# Altium footprint library 8A8K64S4A12.PcbLib: 32 footprints (part 2 of 2)
Each footprint in its own frame and in the unit in brackets; x right, y up, seen from the top. Pads: shape width x height; smd on the part's side, far side on the other; paste and mask are expansions set on the pad; w line width, h text height; cw(c..) or ccw(c..) is an arc to the next point about the centre after c.
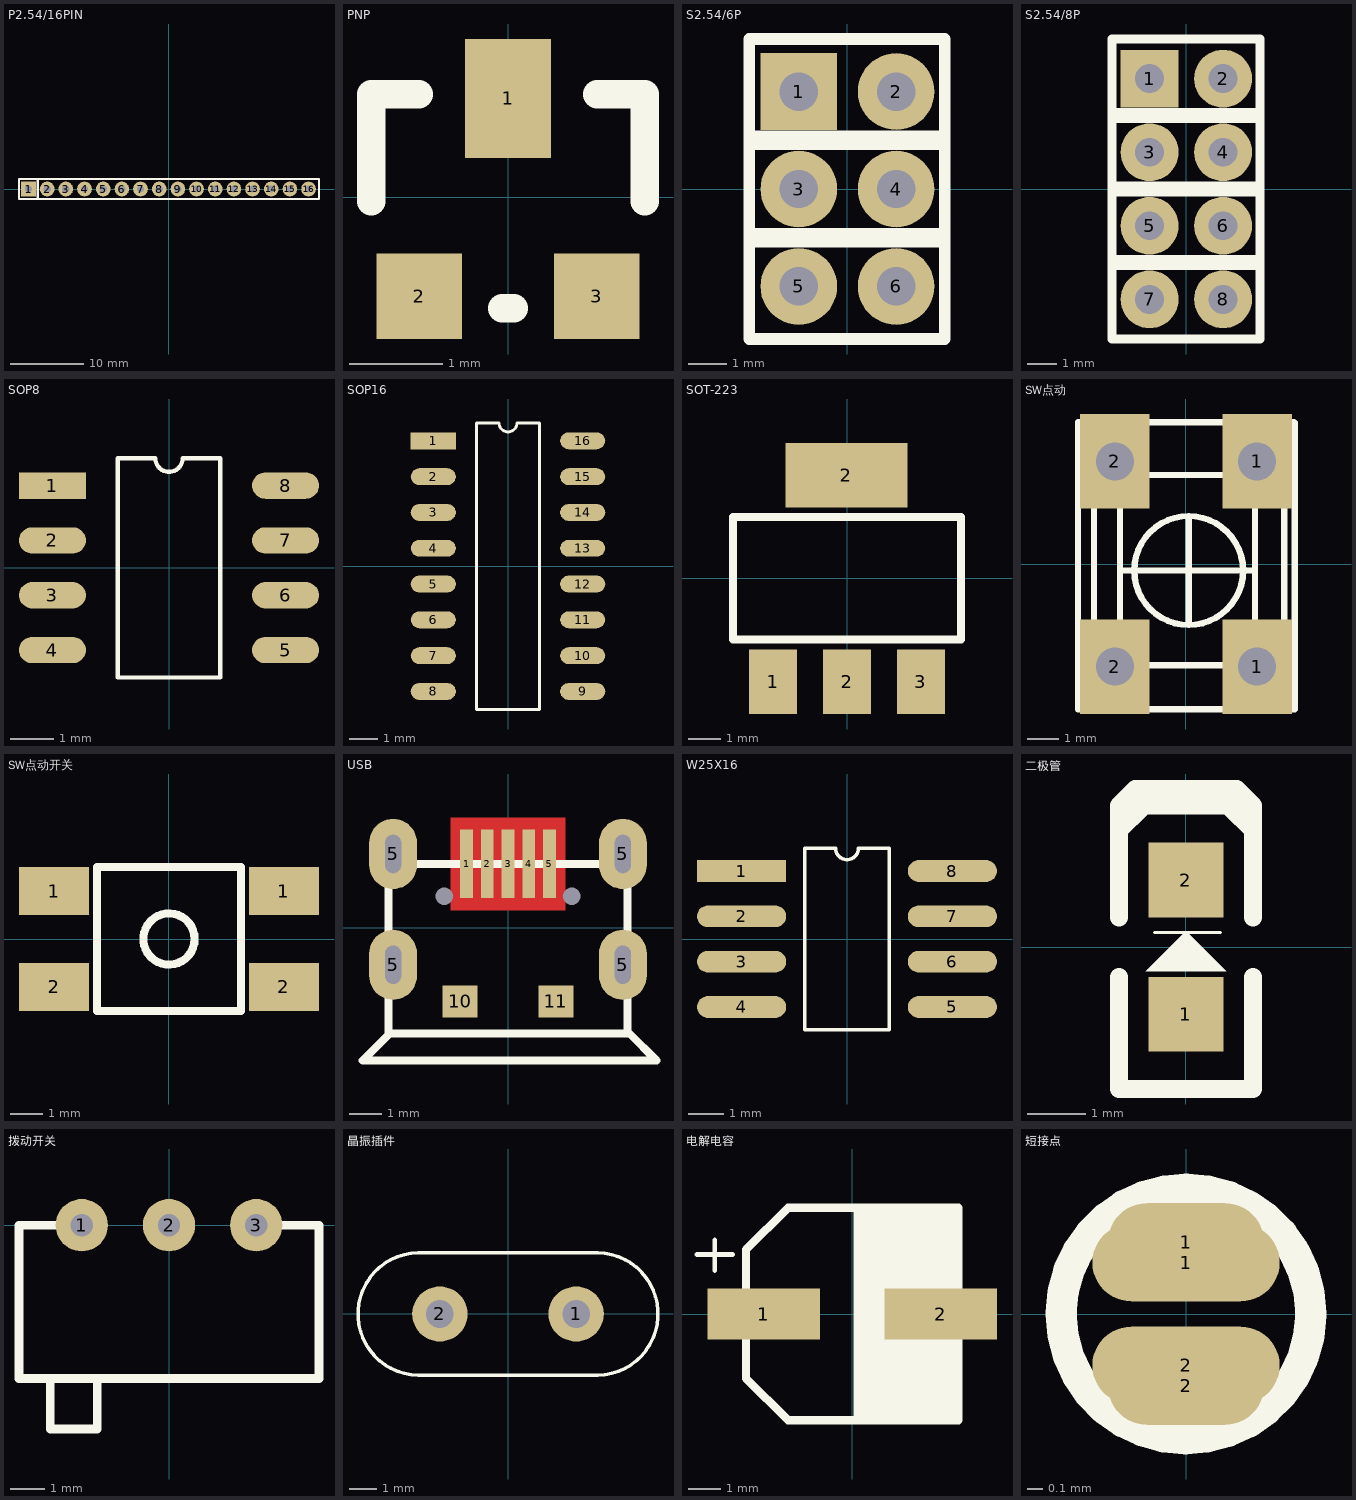
[diagram p1: the footprints below, top view; thin cyan lines are the x and y axes]

## P2.54/16PIN [mm]
pads (16):
  rect 2x2 hole 1: 1(-19.05,0)
  round 2 hole 1: 2(-16.51,0) 3(-13.97,0) 4(-11.43,0) 5(-8.89,0) 6(-6.35,0) 7(-3.81,0) 8(-1.27,0) 9(1.27,0) 10(3.81,0) 11(6.35,0) 12(8.89,0) 13(11.43,0) 14(13.97,0) 15(16.51,0) 16(19.05,0)
Top Overlay:
  lines w0.305: -17.78,-1.372 -17.78,1.372 ; -20.345,-1.372 -20.345,1.372 20.472,1.372 20.472,-1.372 -20.345,-1.372

## PNP [mil]
pads (3):
  rect 36x50 smd: 1(0,41.65)
  rect 36x36 smd: 2(-37.4,-41.65) 3(37.4,-41.65)
Top Overlay:
  lines w12: -57.5,-1.65 -57.5,43.35 -37.5,43.35 ; -2.5,-46.65 2.5,-46.65 ; 37.5,43.35 57.5,43.35 57.5,-1.65

## S2.54/6P [mm]
pads (6):
  rect 2x2 hole 1: 1(-1.27,2.54)
  round 2 hole 1: 2(1.27,2.54) 3(-1.27,0) 4(1.27,0) 5(-1.27,-2.54) 6(1.27,-2.54)
Top Overlay:
  lines w0.305: -2.565,-1.372 -2.565,1.372 ; -2.565,-1.372 2.54,-1.372 ; -2.565,-1.372 2.54,-1.372 ; -2.565,-1.372 -2.565,1.372 ; -2.565,1.372 2.54,1.372 ; -2.565,1.372 2.54,1.372 ; 2.54,-1.372 2.54,1.372 ; 2.54,-1.372 2.54,1.372 ; -2.565,-3.912 -2.565,-1.168 2.54,-1.168 2.54,-3.912 -2.565,-3.912 ; -2.565,1.168 2.54,1.168 2.54,3.912 -2.565,3.912 -2.565,1.168

## S2.54/8P [mm]
pads (8):
  rect 2x2 hole 1: 1(-1.27,3.81)
  round 2 hole 1: 2(1.27,3.81) 3(-1.27,1.27) 4(1.27,1.27) 5(-1.27,-1.27) 6(1.27,-1.27) 7(-1.27,-3.81) 8(1.27,-3.81)
Top Overlay:
  lines w0.305: -2.565,-5.182 2.54,-5.182 2.54,-2.438 -2.565,-2.438 -2.565,-5.182 ; -2.565,-2.642 2.54,-2.642 2.54,0.102 -2.565,0.102 -2.565,-2.642 ; -2.565,-0.102 -2.565,2.642 2.54,2.642 2.54,-0.102 -2.565,-0.102 ; -2.565,2.438 -2.565,5.182 2.54,5.182 2.54,2.438 -2.565,2.438

## SOP8 [mil]
pads (8):
  rect 61x24 smd: 1(-106.3,75)
  oval 61x24 smd: 2(-106.3,25) 3(-106.3,-25) 4(-106.3,-75) 5(106.3,-75) 6(106.3,-25) 7(106.3,25) 8(106.3,75)
Top Overlay:
  lines w4: -46.8,-100 46.8,-100 46.8,100 12.5,100 cw(c0,100) -12.5,100 -46.8,100 -46.8,-100

## SOP16 [mm]
pads (16):
  rect 1.6x0.6 smd: 1(-2.65,4.445)
  oval 1.6x0.6 smd: 2(-2.65,3.175) 3(-2.65,1.905) 4(-2.65,0.635) 5(-2.65,-0.635) 6(-2.65,-1.905) 7(-2.65,-3.175) 8(-2.65,-4.445) 9(2.65,-4.445) 10(2.65,-3.175) 11(2.65,-1.905) 12(2.65,-0.635) 13(2.65,0.635) 14(2.65,1.905) 15(2.65,3.175) 16(2.65,4.445)
Top Overlay:
  lines w0.1: -1.115,-5.08 1.115,-5.08 1.115,5.08 0.318,5.08 cw(c0,5.08) -0.318,5.08 -1.115,5.08 -1.115,-5.08

## SOT-223 [mil]
pads (4):
  rect 59x79 smd: 1(-90.55,-126.77) 2(0,-126.77) 3(90.55,-126.77)
  rect 150x79 smd: 2(-0.67,126.77)
Top Overlay:
  lines w10: -140,-74.77 -140,75.23 140,75.23 140,-74.77 -140,-74.77
3D body: height 66.93, standoff 0, extent -128.96,-135.49 126.95,138.53

## SW点动 [mm]
pads (4):
  rect 2.2x3 hole 1.2: 1(2.25,-3.25) 1(2.25,3.25) 2(-2.25,-3.25) 2(-2.25,3.25)
Top Layer:
  lines w0.508: -2.484,2.909 ccw(c-2.616,3.25) -2.25,3.25 ccw(c-1.884,3.25) -2.016,2.909
Top Overlay:
  circle w0.2: c0.084,-0.207 r1.725
  lines w0.2: -2.091,-2.457 -2.091,2.093 -2.091,-0.207 2.084,-0.207 ; 0.084,-1.807 0.084,1.393 ; 2.184,-2.482 2.184,2.068 ; 3.109,2.068 3.109,2.818 -2.916,2.818 -2.916,-3.207 3.109,-3.207 3.109,2.793 ; 3.416,4.493 -3.418,4.493 -3.418,-4.599 3.44,-4.599 3.44,4.469

## SW点动开关 [mm]
pads (4):
  rect 2.2x1.5 smd: 1(-3.6,1.5) 1(3.6,1.5) 2(-3.6,-1.5) 2(3.6,-1.5)
Top Overlay:
  circle w0.254: c0,0 r0.803
  lines w0.254: -2.25,-2.25 -2.25,2.25 2.25,2.25 2.25,-2.25 -2.25,-2.25

## USB [mm]
pads (13):
  rect 0.4x2.15 smd: 1(-1.3,2) 2(-0.65,2) 3(0,2) 4(0.65,2) 5(1.3,2)
  oval 1.5x2.2 hole 0.5 slot 1.2 at 90 deg: 5(-3.6,-1.16) 5(-3.6,2.31) 5(3.6,-1.16) 5(3.6,2.31)
  rect 1.1x1 smd: 10(-1.5,-2.31) 11(1.5,-2.31)
  round 0 hole 0.55 unplated: 12(-2,0.99) 13(2,0.99)
Top Layer:
  pour cut-out: -1.8,0.55 1.8,0.55 1.8,3.45 -1.8,3.45
Top Overlay:
  lines w0.254: -4.55,-4.16 4.65,-4.16 3.8,-3.31 -3.7,-3.31 -4.55,-4.16 ; -3.75,-3.31 -3.75,2 3.75,2 3.75,-3.31 -3.75,-3.31

## W25X16 [mm]
pads (8):
  rect 2.5x0.61 smd: 1(-2.954,1.905)
  oval 2.5x0.61 smd: 2(-2.954,0.635) 3(-2.954,-0.635) 4(-2.954,-1.905) 5(2.954,-1.905) 6(2.954,-0.635) 7(2.954,0.635) 8(2.954,1.905)
Top Overlay:
  lines w0.102: -1.189,-2.54 1.189,-2.54 1.189,2.54 0.318,2.54 cw(c0,2.54) -0.318,2.54 -1.189,2.54 -1.189,-2.54

## 二极管 [mil]
pads (2):
  rect 50x50 smd: 1(0,-45) 2(0,45)
Top Overlay:
  region: -1,10 -27,-16 27,-16 1,10
  lines w1.97: -21,10 23,10
  lines w12: -45,-20 -45,-95 45,-95 45,-20 ; -45,20 -45,95 ; -45,78 -29.44,93.56 ; 29.44,93.56 45,78 ; 45,20 45,95 ; -45,95 45,95 ; -45,95 -34,106 34,106 45,95

## 拨动开关 [mm]
pads (3):
  round 1.5 hole 0.635: 1(-2.5,0) 2(0,0) 3(2.5,0)
Top Overlay:
  lines w0.254: -3.404,-4.42 -3.404,-5.842 -2.057,-5.842 -2.057,-4.47 ; -2.5,-4.4 -4.3,-4.4 ; -2.5,0 -4.3,0 -4.3,-4.4 ; 2.5,0 4.3,0 4.3,-4.4 -4.3,-4.4

## 晶振插件 [mil]
pads (2):
  round 80 hole 40: 1(98.43,0) 2(-98.43,0)
Top Overlay:
  lines w5: -129.92,88.58 ccw(c-128.18,0) -129.75,-88.58 129.92,-88.58 ccw(c128.18,0) 129.75,88.58 -129.92,88.58

## 电解电容 [mm]
pads (2):
  rect 3.5x1.6 smd: 1(-2.75,0) 2(2.75,0)
Top Overlay:
  region: 3.225,3.2 0.05,3.2 0.05,-3.25 3.225,-3.25
  lines w0.15: -4.825,1.85 -3.725,1.85 ; -4.275,1.35 -4.275,2.3
  lines w0.254: -3.3,-2 -3.3,2 -2,3.3 3.3,3.3 3.3,-3.3 -2,-3.3 -3.3,-2

## 短接点 [mm]
pads (4):
  oval 1.2x0.5 smd: 1(0,0.33) 2(0,-0.33)
  oval 1x0.5 smd: 1(0,0.461) 2(0,-0.461)
Top Overlay:
  lines w0.2: 0.8,-0.005 cw(c0,0) 0.8,0 ccw(c0,0) 0.8,-0.005